# EAGLE library part 1-776200-5 (library 1-776200-5)
Header Vertical 23 way Pin AmpSeal Source: Datasheet <https://www.te.com/commerce/DocumentDelivery/DDEController?Action=showdoc&DocId=Customer Drawing776200EpdfEnglishENG_CD_776200_E.pdf1-776200-5>
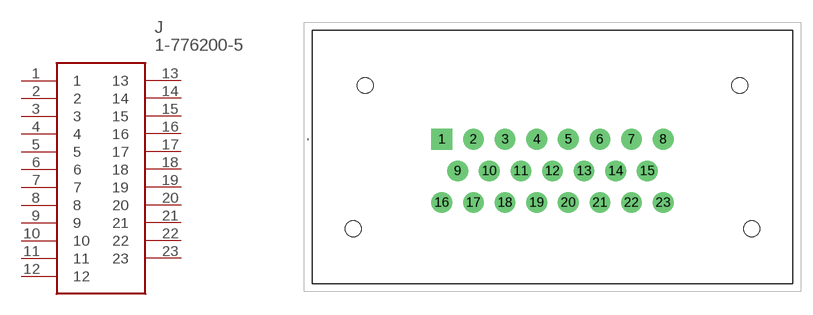
[diagram p0: symbol with the pads of 17762005; footprint 17762005]

Designator prefix J

## 1-776200-5 (Description: Header Vertical 23 way Pin AmpSeal; Height: 34.25mm; Manufacturer_Name: TE Connectivity; Manufacturer_Part_Number: 1-776200-5; Mouser_Part_Number: 571-1-776200-5; Mouser_Price-Stock: https://www.mouser.co.uk/ProductDetail/TE-Connectivity-AMP/1-776200-5?qs=YqNA2qefETBJbWsdhRcFeA%3D%3D)  [17762005]
1  1
2  2
3  3
4  4
5  5
6  6
7  7
8  8
9  9
10  10
11  11
12  12
13  13
14  14
15  15
16  16
17  17
18  18
19  19
20  20
21  21
22  22
23  23

## Footprint 17762005 (pad centres in mm)
1-776200-5-2
drill 1.75 pad 2.625 square: 1 0,0
drill 1.75 pad 2.625: 2 4,0; 3 8,0; 4 12,0; 5 16,0; 6 20,0; 7 24,0; 8 28,0; 9 2,-4; 10 6,-4; 11 10,-4; 12 14,-4; 13 18,-4; 14 22,-4; 15 26,-4; 16 0,-8; 17 4,-8; 18 8,-8; 19 12,-8; 20 16,-8; 21 20,-8; 22 24,-8; 23 28,-8
hole 2 at -9.7,6.8
hole 2 at 37.7,6.8
hole 2 at -11.2,-11.3
hole 2 at 39.2,-11.3